# Altium footprint library x-CKC_JS202011AQN.PcbLib: 1 footprints
Each footprint in its own frame and in the unit in brackets; x right, y up, seen from the top. Pads: shape width x height; smd on the part's side, far side on the other; paste and mask are expansions set on the pad; w line width, h text height; cw(c..) or ccw(c..) is an arc to the next point about the centre after c.
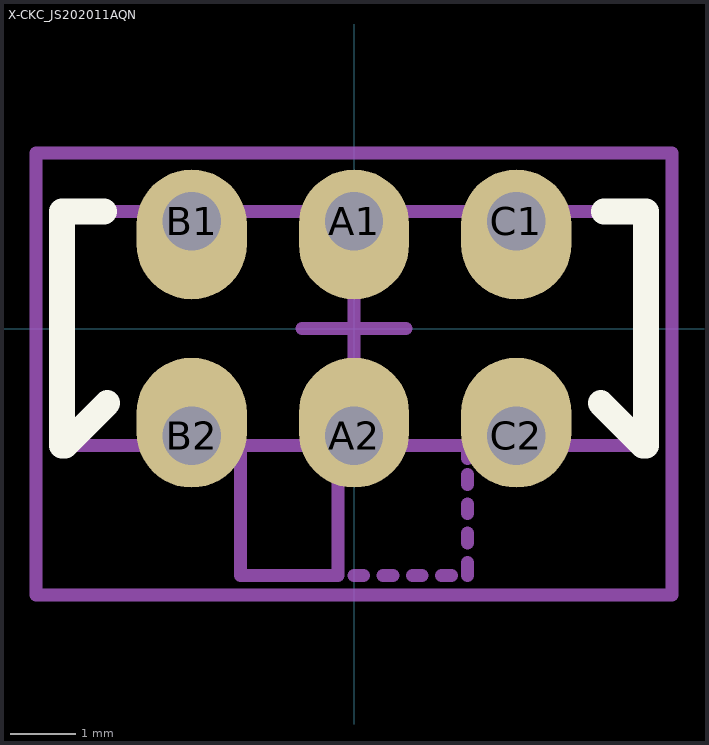
[diagram p0: the footprint, top view; thin cyan lines are the x and y axes]

## X-CKC_JS202011AQN [mm] "Slide Switch, DPDT, Thru hole, JS Series"
height 3.5
pads (6):
  oval 1.7x2 hole 0.9 copper offset 0,-0.2: A1(0,1.65) B1(-2.5,1.65) C1(2.5,1.65)
  oval 1.7x2 hole 0.9 copper offset 0,0.2: A2(0,-1.65) B2(-2.5,-1.65) C2(2.5,-1.65)
Top Overlay:
  lines w0.4: -4.5,-1.8 -4.5,1.8 -3.85,1.8 ; -4.45,-1.8 -3.8,-1.15 ; 3.8,-1.15 4.45,-1.8 ; 3.85,1.8 4.5,1.8 4.5,-1.8
Mechanical 13:
  lines w0.2: -1.75,-1.8 -1.75,-3.8 -0.25,-3.8 -0.25,-1.8 ; 0,-3.8 0.15,-3.8 ; 0.45,-3.8 0.6,-3.8 ; 0.9,-3.8 1.05,-3.8 ; 1.35,-3.8 1.5,-3.8 ; 1.75,-3.8 1.75,-3.6 ; 1.75,-3.3 1.75,-3.15 ; 1.75,-2.85 1.75,-2.7 ; 1.75,-2.4 1.75,-2.25 ; 1.75,-2 1.75,-1.8 ; -4.5,-1.8 -4.5,1.8 4.5,1.8 4.5,-1.8 -4.5,-1.8
Mechanical 15:
  lines w0.2: -0.8,0 0.8,0 ; 0,-0.8 0,0.8 ; -4.9,-4.1 4.9,-4.1 4.9,2.7 -4.9,2.7 -4.9,-4.1
3D body: height 3.25, standoff 1.75, extent -1.749,-3.799 -0.251,-1.801
3D body: height 3.5, standoff 0, extent -4.499,-1.799 4.499,1.799